# EAGLE library part LDL112D33R (library LDL112D33R)
LDO Voltage Regulators 1.2 A low quiescent current LDO with reverse current protection Source: Datasheet <https://www.arrow.com/en/products/ldl112d33r/stmicroelectronics>
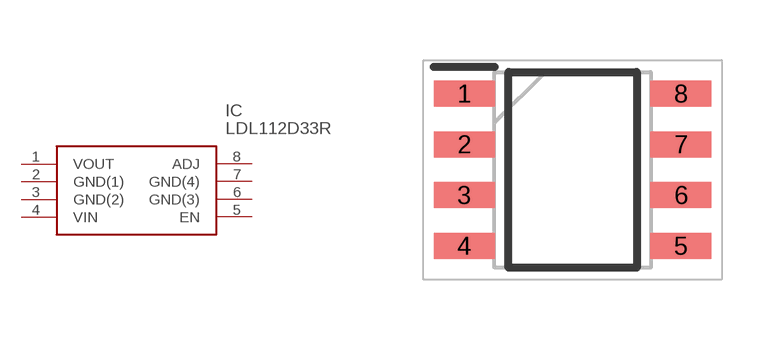
[diagram p0: symbol with the pads of SOIC127P600X175-8N; footprint SOIC127P600X175-8N]

Designator prefix IC

## LDL112D33R (Description: LDO Voltage Regulators 1.2 A low quiescent current LDO with reverse current protection; Height: 1.75mm; Manufacturer_Name: STMicroelectronics; Manufacturer_Part_Number: LDL112D33R)  [SOIC127P600X175-8N]
1  VOUT  in
2  GND(1)  in
3  GND(2)  in
4  VIN  in
5  EN  in
6  GND(3)  in
7  GND(4)  in
8  ADJ  in

## Footprint SOIC127P600X175-8N (pad centres in mm)
SO-8 batwing
smd 1.525 x 0.65: 1 -2.712,1.905; 2 -2.712,0.635; 3 -2.712,-0.635; 4 -2.712,-1.905; 5 2.712,-1.905; 6 2.712,-0.635; 7 2.712,0.635; 8 2.712,1.905